# Altium footprint library WE-PBF.PcbLib: 5 footprints
Each footprint in its own frame and in the unit in brackets; x right, y up, seen from the top. Pads: shape width x height; smd on the part's side, far side on the other; paste and mask are expansions set on the pad; w line width, h text height; cw(c..) or ccw(c..) is an arc to the next point about the centre after c.
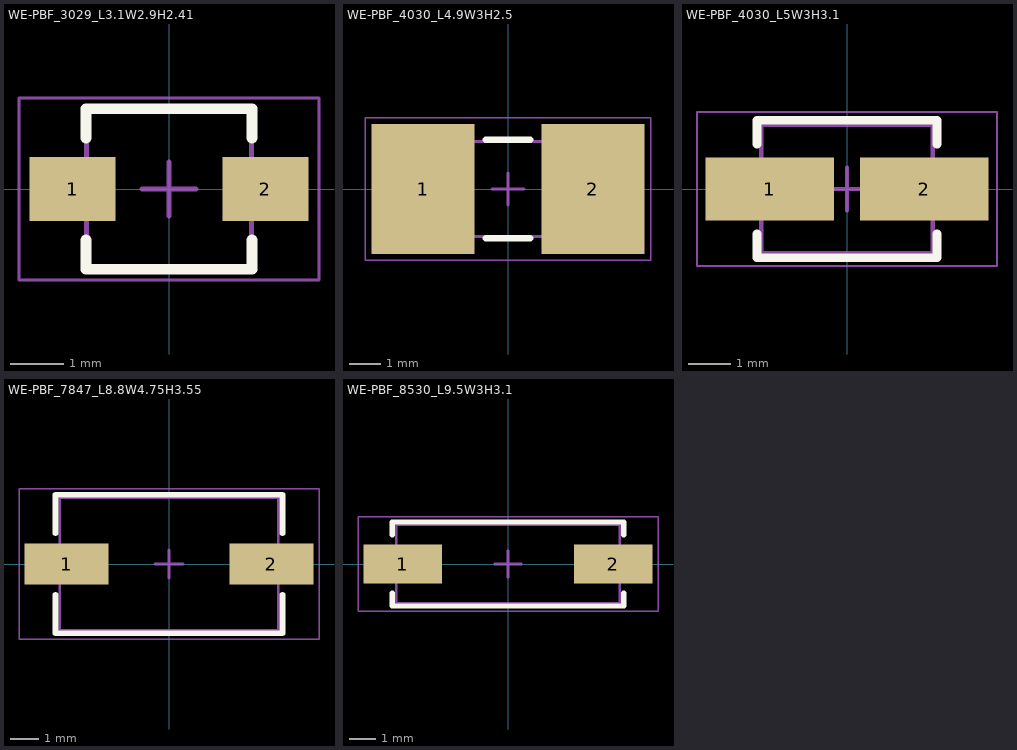
[diagram p0: the footprints below, top view; thin cyan lines are the x and y axes]

## WE-PBF_3029_L3.1W2.9H2.41 [mm] "Flat Wire High Current SMT Ferrite Bead, body 3.10x2.90mm"
height 2.41
pads (2):
  rect 1.6x1.2 smd: 1(-1.8,0) 2(1.8,0)
Top Overlay:
  lines w0.2: -1.55,-0.95 -1.55,-1.5 1.55,-1.5 1.55,-0.95 ; -1.55,0.95 -1.55,1.5 1.55,1.5 1.55,0.95
Top Assembly:
  lines w0.1: -1.54,-1.45 -1.54,1.45 1.54,1.45 1.54,-1.45 -1.54,-1.45
Top Designator:
  text ".Designator" at -3.647,-0.357 h1
Top 3D Body:
  lines w0.1: -1.54,-1.45 1.54,-1.45 1.54,1.45 -1.54,1.45 -1.54,-1.45
Top Courtyard:
  lines w0.05: -2.8,-1.7 -2.8,1.7 2.8,1.7 2.8,-1.7 -2.8,-1.7
Top Component Center:
  lines w0.1: -0.5,0 0.5,0 ; 0,-0.5 0,0.5
3D body "WE-PBF-3029-7427933 (rev1).stp": height 2.22, standoff 0, extent -1.54,-1.45 1.54,1.45

## WE-PBF_4030_L4.9W3H2.5 [mm] "Flat Wire High Current SMT Ferrite Bead, body 4.90x3.00mm"
height 2.5
pads (2):
  rect 3.25x4.1 smd: 1(-2.675,0) 2(2.675,0)
Top Overlay:
  lines w0.2: -0.7,-1.55 0.7,-1.55 ; -0.7,1.55 0.7,1.55
Top Assembly:
  lines w0.1: -2,-1.5 2,-1.5 2,1.5 -2,1.5 -2,-1.5
Top Designator:
  text ".Designator" at -3.647,-0.357 h1
Top 3D Body:
  lines w0.1: -2,-1.5 -2,1.5 2,1.5 2,-1.5 -2,-1.5
Top Courtyard:
  lines w0.05: -4.5,-2.25 4.5,-2.25 4.5,2.25 -4.5,2.25 -4.5,-2.25
Top Component Center:
  lines w0.1: -0.5,0 0.5,0 ; 0,-0.5 0,0.5
3D body "7427934.stp": height 2.32, standoff 0.05, extent -2.25,-1.5 2.25,1.5

## WE-PBF_4030_L5W3H3.1 [mm] "Flat Wire High Current SMT Ferrite Bead, body 5.00x3.00mm"
height 3.1
pads (2):
  rect 3x1.47 smd: 1(-1.8,0) 2(1.8,0)
Top Overlay:
  lines w0.2: -2.1,-1.05 -2.1,-1.6 2.1,-1.6 2.1,-1.05 ; -2.1,1.05 -2.1,1.6 2.1,1.6 2.1,1.05
Top Assembly:
  lines w0.1: -2,-1.5 2,-1.5 2,1.5 -2,1.5 -2,-1.5
Top Designator:
  text ".Designator" at -3.647,-0.357 h1
Top 3D Body:
  lines w0.1: -2,-1.5 -2,1.5 2,1.5 2,-1.5 -2,-1.5
Top Courtyard:
  lines w0.05: -3.5,-1.8 3.5,-1.8 3.5,1.8 -3.5,1.8 -3.5,-1.8
Top Component Center:
  lines w0.1: -0.5,0 0.5,0 ; 0,-0.5 0,0.5
3D body "74279390.stp": height 2.78, standoff 0.02, extent -2.2,-1.5 2.2,1.5

## WE-PBF_7847_L8.8W4.75H3.55 [mm] "Flat Wire High Current SMT Ferrite Bead, body 7.80x4.75mm"
height 3.55
pads (2):
  rect 3x1.47 smd: 1(-3.65,0) 2(3.65,0)
Top Overlay:
  lines w0.2: -4.05,-1.1 -4.05,-2.475 4.05,-2.475 4.05,-1.1 ; -4.05,1.1 -4.05,2.475 4.05,2.475 4.05,1.1
Top Assembly:
  lines w0.1: -3.9,-2.375 -3.9,2.375 3.9,2.375 3.9,-2.375 -3.9,-2.375
Top Designator:
  text ".Designator" at -3.647,-0.357 h1
Top 3D Body:
  lines w0.1: -3.9,-2.375 3.9,-2.375 3.9,2.375 -3.9,2.375 -3.9,-2.375
Top Courtyard:
  lines w0.05: -5.35,-2.675 -5.35,2.675 5.35,2.675 5.35,-2.675 -5.35,-2.675
Top Component Center:
  lines w0.1: -0.5,0 0.5,0 ; 0,-0.5 0,0.5
3D body "7427932.stp": height 3.2, standoff 0, extent -4.1,-2.375 4.1,2.375

## WE-PBF_8530_L9.5W3H3.1 [mm] "Flat Wire High Current SMT Ferrite Bead, body 9.50x3.00mm"
height 3.1
pads (2):
  rect 3x1.47 smd: 1(-4,0) 2(4,0)
Top Overlay:
  lines w0.2: -4.4,-1.1 -4.4,-1.6 4.4,-1.6 4.4,-1.1 ; -4.4,1.1 -4.4,1.6 4.4,1.6 4.4,1.1
Top Assembly:
  lines w0.1: -4.25,-1.5 4.25,-1.5 4.25,1.5 -4.25,1.5 -4.25,-1.5
Top Designator:
  text ".Designator" at -3.647,-0.357 h1
Top 3D Body:
  lines w0.1: -4.25,-1.5 -4.25,1.5 4.25,1.5 4.25,-1.5 -4.25,-1.5
Top Courtyard:
  lines w0.05: -5.7,-1.8 5.7,-1.8 5.7,1.8 -5.7,1.8 -5.7,-1.8
Top Component Center:
  lines w0.1: -0.5,0 0.5,0 ; 0,-0.5 0,0.5
3D body "7427931 (rev1).stp": height 2.76, standoff 0, extent -4.45,-1.5 4.45,1.5